# Altium schematic symbol library ESD.SchLib: 5 symbols
Pins are listed as number, name and electrical type; pins without a type are passive.

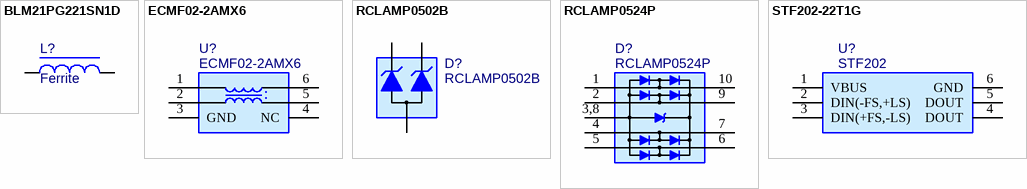
[diagram p0: symbols BLM21PG221SN1D to STF202-22T1G]

## BLM21PG221SN1D
designator L?, comment Ferrite
EMI Filter Beads, Chips & Arrays 0805 220 OHM; Manufacturer 1: MuRata; Manufacturer Part Number 1: BLM21PG221SN1D; Package Imperial: 0805; ComponentLink1Description: Datasheet; Created: 2014-05-31; Last Updated: 2014-05-31; Package: 2012; Supplier 1: Mouser; Supplier Part Number 1: 81-BLM21P221SG
footprint FER_2012 (0805) (Chip Ferrite Bead Body 2.00x1.25mm, IPC High Density)
pins: 1, 2

## ECMF02-2AMX6
designator U?
Common mode filter with ESD protection for  USB 2.0 and MIPI D-PHY/MDDI interface; Manufacturer 1: ST; ComponentLink1Description: Datasheet; Created: 2014-05-19; Last Updated: 2014-05-19; Manufacturer Part Number 1: ECMF02-2AMX6; Package: uQFN-6L
footprint uQFN-6L
pins: 1 D-, 2 D+, 3 GND (power), 4 NC, 5 D+, 6 D-

## RCLAMP0502B
designator D?
Ultra Low Capacitance TVS Array; Manufacturer 1: Semtech; ComponentLink1Description: Datasheet; Created: 2014-05-19; Last Updated: 2014-05-19; Manufacturer Part Number 1: RClamp0502B; Package: SOT-523
footprint SOT523 (SOT-523 / SC-75)
pins: 1 "Cathode", 2 "Cathode", 3 "Anode"

## RCLAMP0524P
designator D?
Ultra Low Capacitance TVS Array; Manufacturer 1: Semtech; Manufacturer Part Number 1: RClamp0524P.TCT; ComponentLink1Description: Datasheet; Created: 2014-05-07; Last Updated: 2014-05-07; Package: SLP2510P8
footprint SEMTECH_SLP2510P8 (Semtech array ESD package)
pins: 1 IN1, 2 IN2, 3,8 GND, 4 IN3, 5 IN4, 6 OUT4, 7 OUT3, 9 OUT2, 10 OUT1

## STF202-22T1G
designator U?, comment STF202
USB Filter with ESD  Protection for upstream; Manufacturer 1: On; Manufacturer Part Number 1: STF202-22T1G; ComponentLink1Description: Datasheet; Created: 2014-05-26; Last Updated: 2014-05-26; Package: TSOP-6
footprint TSOP95P280X110-6N (TSOP, 6-Leads, Body 3,00x2,75mm, Pitch 0,95mm, IPC Medium Density)
pins: 1 VBUS (power), 2 DIN(-FS,+LS), 3 DIN(+FS,-LS), 4 DOUT, 5 DOUT, 6 GND (power)